# Altium footprint library Schlib1.PcbLib: 8 footprints
Each footprint in its own frame and in the unit in brackets; x right, y up, seen from the top. Pads: shape width x height; smd on the part's side, far side on the other; paste and mask are expansions set on the pad; w line width, h text height; cw(c..) or ccw(c..) is an arc to the next point about the centre after c.
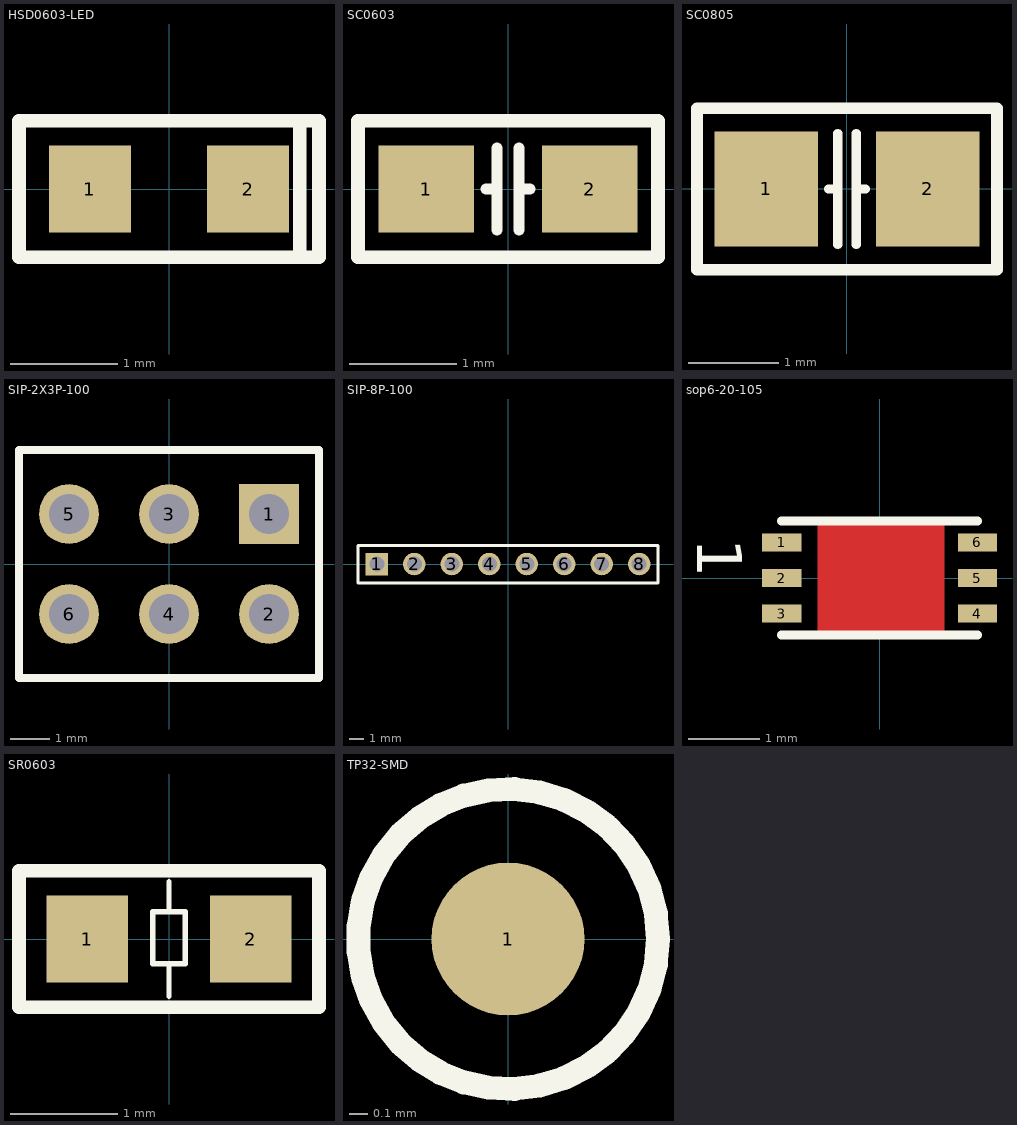
[diagram p0: the footprints below, top view; thin cyan lines are the x and y axes]

## HSD0603-LED [mil] "HSD0603-LED"
pads (2):
  rect 30x32 smd: 1(-29,0) 2(29,0)
Top Overlay:
  lines w5: 48,-25 48,25 ; -55,-25 55,-25 55,25 -55,25 -55,-25

## SC0603 [mil] "SC0603"
pads (2):
  rect 35x32 smd: 1(-30,0) 2(30,0)
Top Overlay:
  lines w4: -8,0 -4,0 ; -4,-15 -4,15 ; 4,-15 4,15 ; 4,0 8,0
  lines w5: -55,-25 55,-25 55,25 -55,25 -55,-25

## SC0805 [mil] "SC0805"
pads (2):
  rect 45x50 smd: 1(-35,0) 2(35,0)
Top Overlay:
  lines w4: -8,0 -4,0 ; -4,-24 -4,24 ; 4,-24 4,24 ; 4,0 8,0
  lines w5: -65,-35 -65,35 65,35 65,30 65,-35 -65,-35

## SIP-2X3P-100 [mil] "SIP-2X3P-100"
pads (6):
  rect 60x60 / inner round 60 / far side round 60 hole 40: 1(100,50)
  round 60 hole 40: 2(100,-50) 3(0,50) 4(0,-50) 5(-100,50) 6(-100,-50)
Top Overlay:
  lines w8: -150,-114 -150,114 150,114 150,-114 -150,-114

## SIP-8P-100 [mil] "SIP-8P-100"
pads (8):
  rect 60x60 hole 40: 1(-350,0)
  round 60 hole 40: 2(-250,0) 3(-150,0) 4(-50,0) 5(50,0) 6(150,0) 7(250,0) 8(350,0)
Top Overlay:
  lines w8: -400,-50 400,-50 400,50 -400,50 -400,-50

## sop6-20-105 [mm]
pads (6):
  rect 0.55x0.25 smd: 1(-1.375,0.5) 2(-1.375,0) 3(-1.375,-0.5) 4(1.375,-0.5) 5(1.375,0) 6(1.375,0.5)
Top Layer:
  pour cut-out: -0.867,0.8 -0.867,-0.8 0.911,-0.8 0.911,0.8
Top Overlay:
  lines w0.127: -1.375,-0.8 1.375,-0.8 ; -1.375,0.8 1.375,0.8
  text "1" at -2.565,0.559 h0.64

## SR0603 [mil] "SR0603"
pads (2):
  rect 30x32 smd: 1(-30,0) 2(30,0)
Top Overlay:
  lines w2: 0,-21 0,-9 ; 0,21 0,10 -6,10 ; -6,10 6,10 6,-9 -6,-9 -6,10
  lines w5: -55,-25 55,-25 55,25 -55,25 -55,-25

## TP32-SMD [mil] "TP32-SMD"
pads (1):
  round 32 smd: 1(0,0)
Top Overlay:
  circle w5: c0,0 r31.4